# EAGLE library part AD7142_8WAY_SWITCH (library diode-20CJQ030)
AD7142_8WAY_SWITCH is capacitive landpattern for the 8-way button sensor of the AD7142, The 8-way switch is made from two pairs of differential buttons. It, therefore, requires two conversion stages, one for each of the differential button pairs. The buttons are orientated so that one pair makes up the top and bottom portions of the 8-way switch; the other pair makes up the left and right portions of the 8-way switch. Please send any comments to: messi@users.sourceforge.net
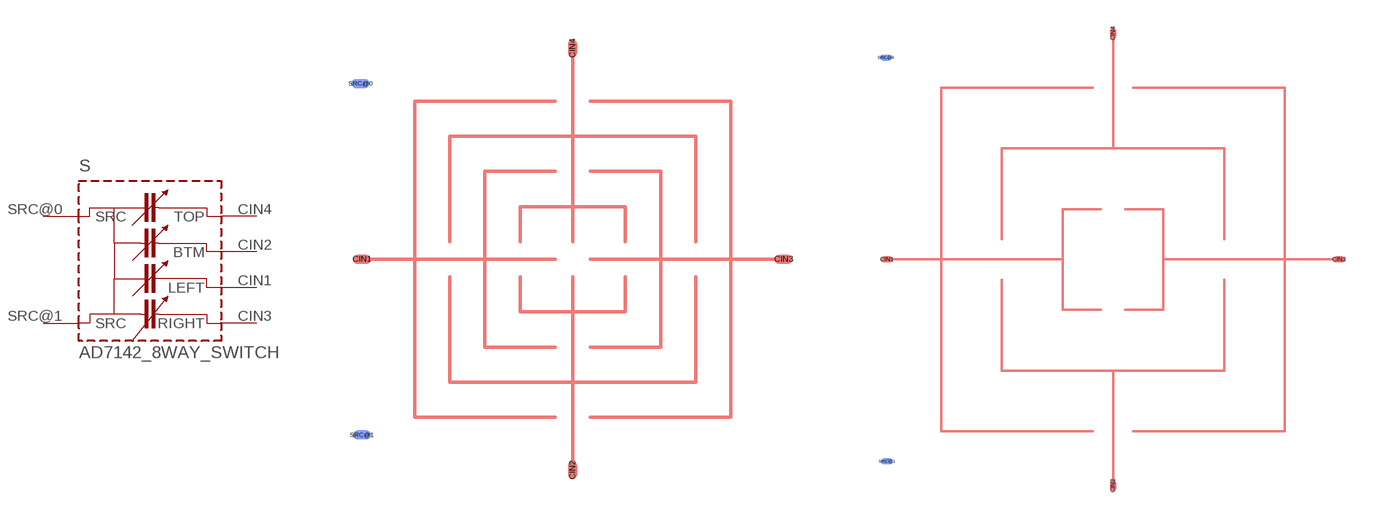
[diagram p154: symbol with the pads of C_8_WAY_BUTTON; footprints C_8_WAY_BUTTON, C_8_WAY_BUTTON2]

Designator prefix S

## AD7142_8WAY_SWITCH-A  [C_8_WAY_BUTTON]
CIN1  LEFT  pas
CIN2  BTM  pas
CIN3  RIGHT  pas
CIN4  TOP  pas
SRC@0  SRC  pas
SRC@1  SRC  pas

## AD7142_8WAY_SWITCH-C  [C_8_WAY_BUTTON2]
Pads as for C_8_WAY_BUTTON

## AD7142_8WAY_SWITCH-B  [C_8_WAY_BUTTON1]
Pads as for C_8_WAY_BUTTON

## Footprint C_8_WAY_BUTTON (pad centres in mm)
Capacitive 8-way button for the AD7142, 12mm by 12mm
smd 0.61 x 0.305: CIN1 -7.2,0; CIN3 7.2,0
smd 0.305 x 0.61: CIN2 0,-7.2; CIN4 0,7.2
smd 0.61 x 0.305 bottom: SRC@0 -7.25,6; SRC@1 -7.2,-6

## Footprint C_8_WAY_BUTTON2 (pad centres in mm)
8 way capacitive button for the AD7142 from Analog Devices, 20mm diameter
smd 0.61 x 0.305: CIN1 -11.2,0; CIN3 11.2,0
smd 0.305 x 0.61: CIN2 0,-11.2; CIN4 0,11.2
smd 0.61 x 0.305 bottom: SRC@0 -11.25,10; SRC@1 -11.2,-10

## Footprint C_8_WAY_BUTTON1 (pad centres in mm)
Capacitive 8-way button for the AD7142, 16.8mm by 16.8mm
smd 0.61 x 0.305: CIN1 -9.6,0; CIN3 9.6,0
smd 0.305 x 0.61: CIN2 0,-9.6; CIN4 0,9.6
smd 0.61 x 0.305 bottom: SRC@0 -9.65,8.4; SRC@1 -9.6,-8.4